# Altium footprint library QFN50P350X450X100_HS-21N.PcbLib: 1 footprints
Each footprint in its own frame and in the unit in brackets; x right, y up, seen from the top. Pads: shape width x height; smd on the part's side, far side on the other; paste and mask are expansions set on the pad; w line width, h text height; cw(c..) or ccw(c..) is an arc to the next point about the centre after c.
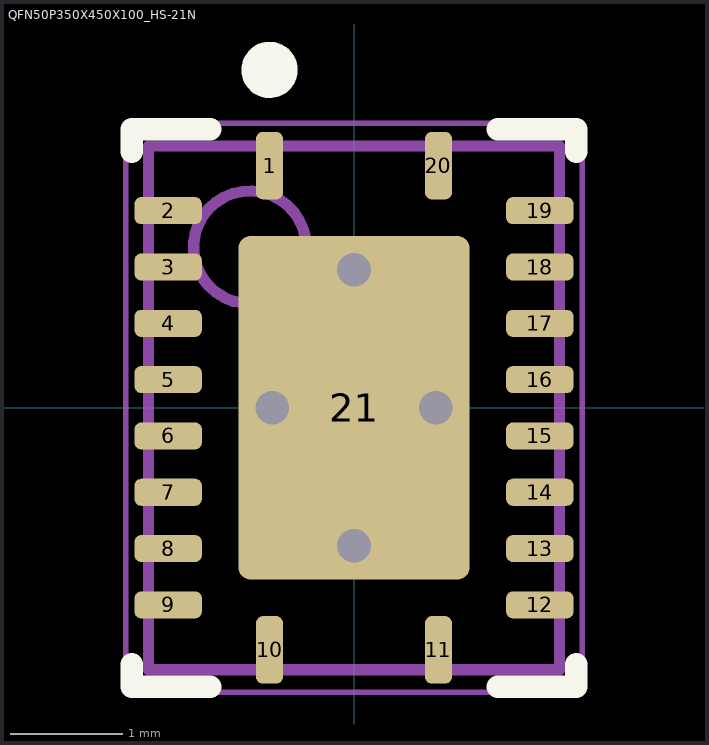
[diagram p0: the footprint, top view; thin cyan lines are the x and y axes]

## QFN50P350X450X100_HS-21N [mm] "QFN, 20-Leads, Body 3,50x4,50mm, Pitch 1,50mm/0,50mm, Thermal Pad 2,05x3,05mm, IPC Medium Density"
height 1
pads (21):
  rrect50% 0.24x0.6 smd paste-0.01 mask+0.05: 1(-0.75,2.15) 10(-0.75,-2.15) 11(0.75,-2.15) 20(0.75,2.15)
  rrect50% 0.6x0.24 smd paste-0.01 mask+0.05: 2(-1.65,1.75) 3(-1.65,1.25) 4(-1.65,0.75) 5(-1.65,0.25) 6(-1.65,-0.25) 7(-1.65,-0.75) 8(-1.65,-1.25) 9(-1.65,-1.75) 12(1.65,-1.75) 13(1.65,-1.25) 14(1.65,-0.75) 15(1.65,-0.25) 16(1.65,0.25) 17(1.65,0.75) 18(1.65,1.25) 19(1.65,1.75)
  rrect10% 2.05x3.05 smd paste-10: 21(0,0)
via 0,1.225 diameter 0.6 hole 0.3
via -0.725,0 diameter 0.6 hole 0.3
via 0.725,0 diameter 0.6 hole 0.3
via 0,-1.225 diameter 0.6 hole 0.3
Top Overlay:
  circle w0.25: c-0.75,3 r0.125
  lines w0.2: -1.975,-2.275 -1.975,-2.475 -1.275,-2.475 ; -1.975,2.275 -1.975,2.475 -1.275,2.475 ; 1.275,-2.475 1.975,-2.475 1.975,-2.275 ; 1.275,2.475 1.975,2.475 1.975,2.275
Top Paste:
  rectangle: -1.02,0.105 -0.1,1.435
  region: 1.02,1.435 0.1,1.435 0.1,0.105 1.02,0.105
  rectangle: -1.02,-1.435 -0.1,-0.105
  region: 1.02,-0.105 0.1,-0.105 0.1,-1.435 1.02,-1.435
Top Assembly:
  circle w0.1: c-0.925,1.425 r0.5
  lines w0.1: -1.825,-2.325 -1.825,2.325 1.825,2.325 1.825,-2.325 -1.825,-2.325
Top Courtyard:
  lines w0.05: -2.025,-2.525 -2.025,2.525 2.025,2.525 2.025,-2.525 -2.025,-2.525
  lines w0.1: -0.5,0 0.5,0 ; 0,-0.5 0,0.5
3D body "RGY0020A.stp": height 1, standoff 0, extent -1.75,-2.25 1.75,2.25